# EAGLE library part NHD-C12832A11Z (library CougsInSpace-Boards)
LCD Module - NHD-C12832A11Z
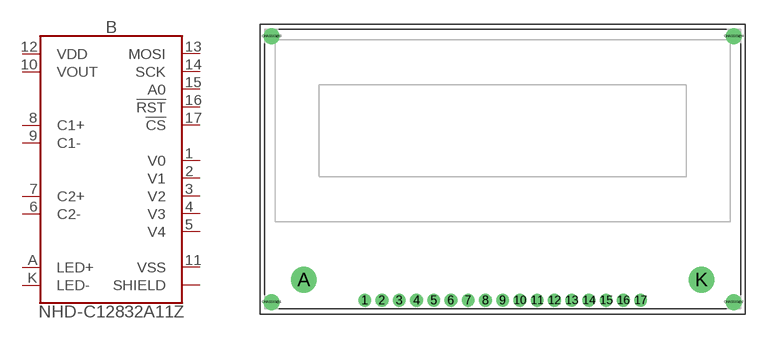
[diagram p2: symbol with the pads of NHD-C12832A1Z; footprint NHD-C12832A1Z]

Designator prefix B

## NHD-C12832A11Z-NSW-BBW-3V3 (SKU: 03-0001; VALUE: 128x32p White on Blue)  [NHD-C12832A1Z]
1  V0  pas
2  V1  pas
3  V2  pas
4  V3  pas
5  V4  pas
6  C2-  pas
7  C2+  pas
8  C1+  pas
9  C1-  pas
10  VOUT  pwr
11  VSS  pwr
12  VDD  pwr
13  MOSI  in
14  SCK  in
15  A0  in
16  !RST  in
17  !CS  in
A  LED+  pwr
CHASSIS@1  SHIELD  pas
CHASSIS@2  SHIELD  pas
CHASSIS@3  SHIELD  pas
CHASSIS@4  SHIELD  pas
K  LED-  pwr

## Footprint NHD-C12832A1Z (pad centres in mm)
LCD Module - NHD-C12832A11Z
drill 0.6 pad 1: 1 -12,0; 2 -10.5,0; 3 -9,0; 4 -7.5,0; 5 -6,0; 6 -4.5,0; 7 -3,0; 8 -1.5,0; 9 0,0; 10 1.5,0; 11 3,0; 12 4.5,0; 13 6,0; 14 7.5,0; 15 9,0; 16 10.5,0; 17 12,0
drill 1.5 pad 2: A -17.3,1.8; K 17.3,1.8
drill 0.8 pad 1.4: CHASSIS@1 -20.1,-0.15; CHASSIS@2 20.1,-0.15; CHASSIS@3 -20.1,22.95; CHASSIS@4 20.1,22.95